# Altium footprint library MLP-6-LEAD-3X3mm.PcbLib: 1 footprints
Each footprint in its own frame and in the unit in brackets; x right, y up, seen from the top. Pads: shape width x height; smd on the part's side, far side on the other; paste and mask are expansions set on the pad; w line width, h text height; cw(c..) or ccw(c..) is an arc to the next point about the centre after c.
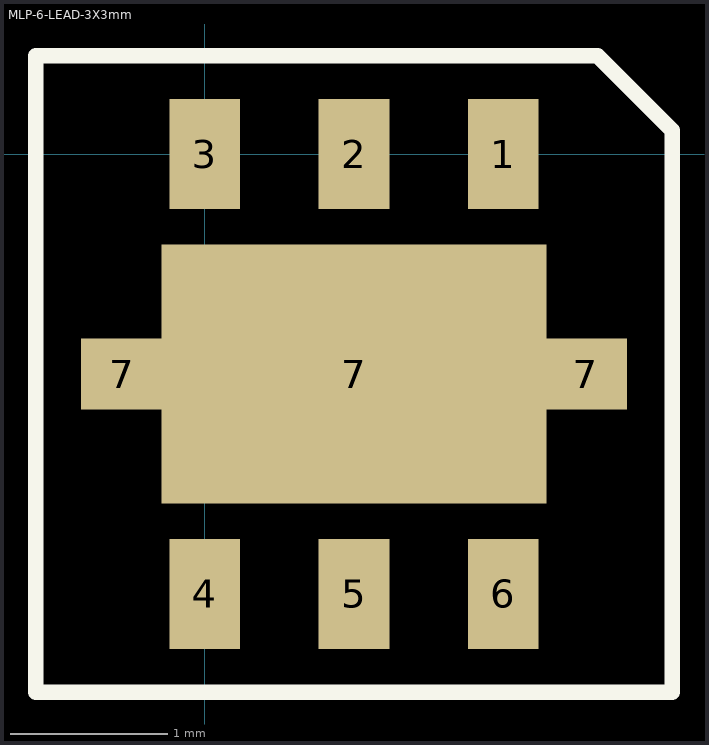
[diagram p0: the footprint, top view; thin cyan lines are the x and y axes]

## MLP-6-LEAD-3X3mm [mm]
pads (9):
  rect 0.45x0.7 smd: 1(1.9,0) 2(0.95,0) 3(0,0) 4(0,-2.8) 5(0.95,-2.8) 6(1.9,-2.8)
  rect 0.525x0.45 smd: 7(-0.525,-1.4) 7(2.425,-1.4)
  rect 2.45x1.65 smd: 7(0.95,-1.4)
Top Overlay:
  lines w0.1: -1.075,-3.425 2.975,-3.425 2.975,0.15 2.5,0.625 -1.075,0.625 -1.075,-3.425